# Altium schematic symbol library Passive.SchLib: 86 symbols (part 3 of 4)
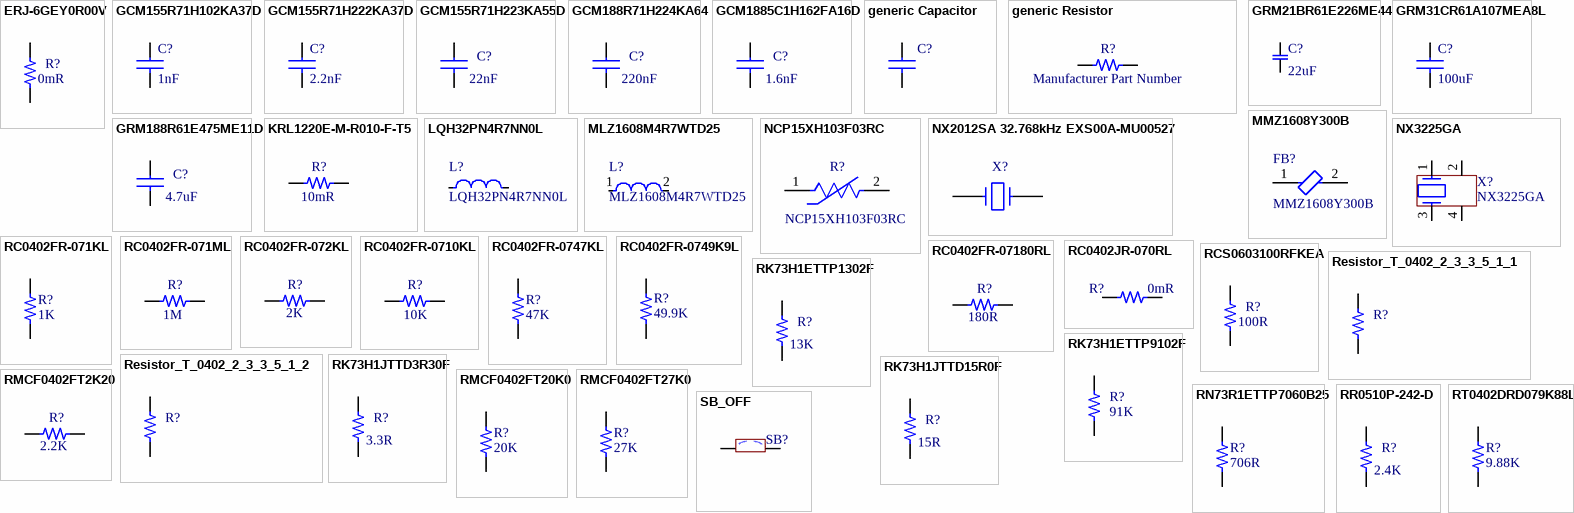
[diagram p4: symbols ERJ-6GEY0R00V to SB_OFF]

## GRM21BR61E226ME44
designator C?  value 22uF  (hidden comment: GRM21BR61E226ME44)
Multilayer Ceramic Capacitor, 22 uF, 25 V, ï¿½ 20%, X5R, 0805 [2012 Metric]; Manufacturer: Murata; Manufacturer Part Number: GRM21BR61E226ME44L; Library: Hexabitz; Voltage Rating: 25V; ComponentLink1URL: https://datasheet.ciiva.com/29199/455898-da-01-en-vs-kondensator-0805-29199201.pdf?src-supplier=Conrad; ComponentLink1Description: https://datasheet.ciiva.com/29199/455898-da-01-en-vs-kondensator-0805-29199201.pdf?src-supplier=Conrad; ComponentLink2URL: https://datasheet.ciiva.com/26310/mlcc-catalogdownload2013-eng-26310125.pdf?src-supplier=Distrelec; ComponentLink2Description: https://datasheet.ciiva.com/26310/mlcc-catalogdownload2013-eng-26310125.pdf?src-supplier=Distrelec; ComponentLink3URL: https://datasheet.ciiva.com/16428/cl05b104kq5nnnc-16428872.pdf?src-supplier=Future+Electronics; ComponentLink3Description: https://datasheet.ciiva.com/16428/cl05b104kq5nnnc-16428872.pdf?src-supplier=Future+Electronics; Supplier: Digikey; Supplier Part Number: 490-10749-6-ND; RoHS: Yes; Category: Ceramic Capacitors; Stock: 324895; Pricing: 1=0.32, 10=0.187, 100=0.1209, 1000=0.0869 (USD); Mounting Technology: Surface Mount; Case/Package: 0805; Case Code (Metric): 2012; Case Code (Imperial): 0805; Material: Ceramic; Weight: 0.000335oz; Min Operating Temperature: -55°C; Max Operating Temperature: 85°C; Tolerance: 20%; Packaging: Cut Tape; Dielectric: X5R; Termination: SMD/SMT; Voltage Rating (DC): 25V; Package Quantity: 3000; Series: GRM; Voltage: 25V; Construction: Flat; Length: 2mm; Width: 1.25mm; Height: 1.25mm; Thickness: 0.057inch; Depth: 1.25mm; RoHS Compliant: Yes; Reach SVHC Compliant: No; Lead Free: Lead Free; ComponentLink4URL: https://datasheet.ciiva.com/22787/1747471-22787265.pdf?src-supplier=Farnell; ComponentLink4Description: https://datasheet.ciiva.com/22787/1747471-22787265.pdf?src-supplier=Farnell; ComponentLink5URL: https://datasheet.ciiva.com/7719/1747471-7719095.pdf?src-supplier=Element14; ComponentLink5Description: https://datasheet.ciiva.com/7719/1747471-7719095.pdf?src-supplier=Element14; ComponentLink6URL: https://datasheet.ciiva.com/28584/1747471-28584199.pdf?src-supplier=Element14; ComponentLink6Description: https://datasheet.ciiva.com/28584/1747471-28584199.pdf?src-supplier=Element14; Supplier 1: Digikey; Supplier Part Number 1: 490-10749-6-ND
footprint C0805
pins: 1, 2

## GRM31CR61A107MEA8L
designator C?  value 100uF  (hidden comment: GRM31CR61A107MEA8L)
100uF ±20% 1206 Multilayer Ceramic Capacitors MLCC - SMD/SMT ROHS; Manufacturer: Murata; Material: 4241ConductorMaterial; Dielectric: 1537DielectricType; Voltage Rating: 10V; Library: Hexabitz; Supplier: Digikey; Supplier Part Number: 490-GRM31CR61A107MEA8LDKR-ND; Manufacturer Part Number: GRM31CR61A107MEA8L; RoHS: Yes; Category: Ceramic Capacitors; Stock: 22643; Pricing: 1=0.49, 10=0.299, 100=0.2007, 1000=0.14965 (USD); Case/Package: 340Case; Min Operating Temperature: -55°C; Max Operating Temperature: 85°C; Tolerance: 20%; Voltage Rating (DC): 10V; Length: 3.2mm; Width: 1.6mm; Height: 1.9mm; Supplier 1: Digikey; Supplier Part Number 1: 490-GRM31CR61A107MEA8LDKR-ND; Supplier 2: Mouser; Supplier Part Number 2: 81-GRM31CR61A107MA8L
footprint C1206
pins: 1, 2

## GRM188R61E475ME11D
designator C?  value 4.7uF  (hidden comment: GRM188R61E475ME11D)
Ceramic Capacitor, Multilayer, Ceramic, 25V, 20% +Tol, 20% -Tol, X5R, 15% TC, 4.7uF, Surface Mount, 0603; Manufacturer: Murata; Library: Hexabitz; Material: 4241ConductorMaterial; ComponentLink1URL: https://datasheet.ciiva.com/155/product-155891.pdf?src-supplier=Digikey; ComponentLink1Description: https://datasheet.ciiva.com/155/product-155891.pdf?src-supplier=Digikey; ComponentLink2URL: https://datasheet.ciiva.com/155/product-155890.pdf?src-supplier=Digikey; ComponentLink2Description: https://datasheet.ciiva.com/155/product-155890.pdf?src-supplier=Digikey; ComponentLink3URL: https://datasheet.ciiva.com/155/product-155892.pdf?src-supplier=Digikey; ComponentLink3Description: https://datasheet.ciiva.com/155/product-155892.pdf?src-supplier=Digikey; Supplier: Digikey; Supplier Part Number: 490-GRM188R61E475ME11DDKR-ND; Manufacturer Part Number: GRM188R61E475ME11D; RoHS: Yes; Category: Ceramic Capacitors; Stock: 8620; Pricing: 1=0.21, 10=0.122, 100=0.0768, 1000=0.05334 (USD); Mounting Technology: Surface Mount; Case/Package: 0603; Case Code (Imperial): 0603; Case Code (Metric): 1608; Weight: 0.000222oz; Min Operating Temperature: -55°C; Max Operating Temperature: 85°C; Voltage Rating: 25V; Tolerance: 20%; Series: GRM; Packaging: Tape and Reel; Voltage Rating (DC): 25V; Termination: SMD/SMT; Package Quantity: 4000; Dielectric: X5R; Length: 1.6mm; Width: 0.8mm; Height: 0.8mm; RoHS Compliant: Yes; ComponentLink4URL: http://www.mouser.com/ds/2/281/c02e-2905.pdf?src-supplier=Mouser; ComponentLink4Description: http://www.mouser.com/ds/2/281/c02e-2905.pdf?src-supplier=Mouser; ComponentLink5URL: http://search.murata.co.jp/Ceramy/image/img/A01X/G101/ENG/GRM188R61E475ME11-01.pdf?src-supplier=Digikey; ComponentLink5Description: http://search.murata.co.jp/Ceramy/image/img/A01X/G101/ENG/GRM188R61E475ME11-01.pdf?src-supplier=Digikey; ComponentLink6URL: https://datasheet.octopart.com/GRM188R61E475ME11D-Murata-datasheet-99353843.pdf?src-supplier=Future+Electronics; ComponentLink6Description: https://datasheet.octopart.com/GRM188R61E475ME11D-Murata-datasheet-99353843.pdf?src-supplier=Future+Electronics; ComponentLink7URL: https://datasheet.octopart.com/GRM188R61E475ME11D-Murata-datasheet-165579666.pdf?src-supplier=TME; ComponentLink7Description: https://datasheet.octopart.com/GRM188R61E475ME11D-Murata-datasheet-165579666.pdf?src-supplier=TME; Supplier 1: Digikey; Supplier Part Number 1: 490-GRM188R61E475ME11DDKR-ND
footprint C0603
pins: 1, 2

## KRL1220E-M-R010-F-T5
designator R?  value 10mR  (hidden comment: KRL1220E-M-R010-F-T5)
Res Metal Foil 0805 0.01 Ohm 1% 0.5W(1/2W) ±50ppm/C Pad SMD Automotive T/R; Manufacturer: Susumu; Library: Hexabitz; Supplier: Digikey; Supplier Part Number: 408-1544-6-ND; Manufacturer Part Number: KRL1220E-M-R010-F-T5; RoHS: No; Category: Chip SMD Resistors; Stock: 336472; Pricing: 1=0.4, 10=0.254, 25=0.2148, 50=0.1904, 100=0.1696, 250=0.14676, 500=0.13246, 1000=0.1203, 2500=0.10698 (USD); ComponentLink1URL: http://www.mouser.com/ds/2/392/n_catalog_partition19_en-1114600.pdf?src-supplier=Mouser; ComponentLink1Description: http://www.mouser.com/ds/2/392/n_catalog_partition19_en-1114600.pdf?src-supplier=Mouser; ComponentLink2URL: http://www.susumu-usa.com/pdf/Foot_Print_21.pdf?src-supplier=Digikey; ComponentLink2Description: http://www.susumu-usa.com/pdf/Foot_Print_21.pdf?src-supplier=Digikey; ComponentLink3URL: https://datasheet.octopart.com/KRL1220E-M-R010-F-T5-Susumu-datasheet-26579243.pdf?src-supplier=Future+Electronics; ComponentLink3Description: https://datasheet.octopart.com/KRL1220E-M-R010-F-T5-Susumu-datasheet-26579243.pdf?src-supplier=Future+Electronics; Supplier 1: Digikey; Supplier Part Number 1: 408-1544-6-ND; Supplier 2: Mouser; Supplier Part Number 2: 754-KRL1220EMR010FT5
footprint R0805
pins: 1, 2

## LQH32PN4R7NN0L
designator L?
Inductor Power Chip Shielded Wirewound 4.7uH 30% 1MHz Ferrite 1A 0.216Ohm DCR 1210 T/R; Manufacturer: Murata; Self Resonant Frequency: 40MHz; DC Resistance (DCR): 180mR; Library: Hexabitz; Supplier: Digikey; Supplier Part Number: 490-5338-6-ND; Manufacturer Part Number: LQH32PN4R7NN0L; RoHS: Yes; Category: Fixed Inductors; Stock: 9126; Pricing: 1=0.25, 10=0.205, 100=0.1688, 1000=0.13878 (USD); Mounting Technology: Surface Mount; Case/Package: 1210; Core Material: Ferrite; Weight: 0.001552oz; Case Code (Metric): 3225; Case Code (Imperial): 1210; Min Operating Temperature: -40°C; Max Operating Temperature: 85°C; Inductance Tolerance: 30%; Package Quantity: 1; Value: 4.7uH; Tolerance: 30%; Packaging: Tape and Reel; Shielding: Shielded; Current Rating: 1A; Saturation Current: 1A; Test Frequency: 1MHz; Max DC Current: 1A; Termination: SMD/SMT; DC Current: 1A; Series: LQH32P_N0; Length: 3.2mm; Width: 0.098inch; Height: 2mm; Height - Seated (Max): 0.067inch; Depth: 2.8mm; Military Standard: Not; Reach SVHC Compliant: No; Lead Free: Lead Free; RoHS Compliant: Yes; ComponentLink1URL: https://datasheet.ciiva.com/30490/0900766b81256105-30490049.pdf?src-supplier=Rs; ComponentLink1Description: https://datasheet.ciiva.com/30490/0900766b81256105-30490049.pdf?src-supplier=Rs; ComponentLink2URL: https://datasheet.ciiva.com/3866/212lqh32pn4r7nn023-3866222.pdf?src-supplier=Arrow+Electronics; ComponentLink2Description: https://datasheet.ciiva.com/3866/212lqh32pn4r7nn023-3866222.pdf?src-supplier=Arrow+Electronics; ComponentLink3URL: https://datasheet.ciiva.com/4963/jelf243a-0061-4963274.pdf?src-supplier=Mouser; ComponentLink3Description: https://datasheet.ciiva.com/4963/jelf243a-0061-4963274.pdf?src-supplier=Mouser; Supplier 1: Digikey; Supplier Part Number 1: 490-5338-6-ND
footprint FP-LQH32PB_N0-MFG
pins: 1, 2

## MLZ1608M4R7WTD25
designator L?
Ind Power Shielded Multi-Layer 4.7uH 20% 2MHz Ferrite 350mA 0603 Paper T/R; Manufacturer: TDK; Library: Hexabitz; Supplier: Digikey; Supplier Part Number: 445-181774-6-ND; Manufacturer Part Number: MLZ1608M4R7WTD25; RoHS: Yes; Category: Fixed Inductors; Stock: 5398; Pricing: 1=0.13, 10=0.109, 25=0.1012, 50=0.0954, 100=0.0899, 250=0.0832, 500=0.07844, 1000=0.07395 (USD); ComponentLink1URL: https://datasheet.ciiva.com/29693/inductor-automotive-decoupling-mlz-en-29693898.pdf?src-supplier=Digikey; ComponentLink1Description: https://datasheet.ciiva.com/29693/inductor-automotive-decoupling-mlz-en-29693898.pdf?src-supplier=Digikey; Supplier 1: Digikey; Supplier Part Number 1: 445-181774-6-ND
footprint FP-MLZ1608-MFG
pins: 1, 2

## MMZ1608Y300B
designator FB?
Ferrite Beads 0603 30ohms 1500mA Signal Line AEC-Q200; Manufacturer: TDK; Manufacturer Part Number: MMZ1608Y300BTD25; Manufacturer Lifecycle Status: PRODUCTION; Library: Hexabitz; Current Rating: 1.5A; DC Resistance (DCR): 50mΩ; Impedance: 30Ω; Number of Circuits: 1; Test Frequency: 100MHz; Tolerance: 25%; Supplier: DigiKey; Supplier Part Number: 445-MMZ1608Y300BTD25DKR-ND; RoHS: Compliant; Category: Ferrite Beads and Chips; Stock: 11896; Pricing: 1=0.1, 10=0.06, 25=0.052, 50=0.0468, 100=0.0419, 250=0.03612, 500=0.03214, 1000=0.02847 (USD); Case/Package: 0603; Case Code (Imperial): 0603; Case Code (Metric): 1608; Core Material: Ferrite; Height: 800µm; Length: 1.6mm; Lifecycle Status: Production; Max Current Rating: 1.5A; Max DC Current: 1.5A; Max Length: 1.75mm; Max Operating Temperature: 125°C; Max Width: 950µm; Min Length: 1.45mm; Min Operating Temperature: -55°C; Min Width: 650µm; Mounting Technology: Surface Mount; Number of Lines: 1; Number of Terminals: 2; Packaging: Tape & Reel (TR); Ratings: AEC-Q200; REACH SVHC: Yes; RMS Current (Irms): 1.5A; ESR: 50mΩ; Termination: SMD/SMT; Weight: 2.012816mg; Width: 800µm; ComponentLink1URL: https://datasheet.octopart.com:443/MMZ1608Y300BTD25-TDK-datasheet-181268448.pdf?src-supplier=IHS; ComponentLink1Description: https://datasheet.octopart.com:443/MMZ1608Y300BTD25-TDK-datasheet-181268448.pdf?src-supplier=IHS; ComponentLink2URL: https://datasheet.octopart.com:443/MMZ1608Y300BTD25-TDK-datasheet-151367874.pdf?src-supplier=TDK; ComponentLink2Description: https://datasheet.octopart.com:443/MMZ1608Y300BTD25-TDK-datasheet-151367874.pdf?src-supplier=TDK; Supplier 1: Digikey; Supplier Part Number 1: 445-MMZ1608Y300BTA00DKR-ND
footprint FP-MMZ1608-0_8-MFG
pins: 1, 2

## NCP15XH103F03RC
designator R?
Thermistor NTC 10K Ohm 1% 2-Pin 0402 Surface Mount Solder Pad 3434K Paper T/R; Manufacturer: Murata; Value: 10kR; Power Rating: 100mW; Current Rating: 310uA; Max Current Rating: 100uA; Voltage Rating: 5V; Library: Hexabitz; Supplier: Digikey; Supplier Part Number: 490-4801-6-ND; RoHS: Yes; Category: Thermistors; Stock: 35316; Pricing: 1=0.11, 5=0.096, 10=0.09, 25=0.0824, 50=0.0778, 100=0.0735, 500=0.06486, 1000=0.06165, 5000=0.05522 (USD); Mounting Technology: Surface Mount; Case/Package: 0402; Pins: 2; Case Code (Metric): 1005; Case Code (Imperial): 0402; Min Operating Temperature: -40°C; Max Operating Temperature: 125°C; Packaging: Tape and Reel; Tolerance: 1%; Package Quantity: 1; Max Power Dissipation: 100mW; Termination: SMD/SMT; Series: NCP; Resistance Tolerance: 1%; Length: 1mm; Height: 0.5mm; Depth: 0.5mm; Radiation Hardening: No; Reach SVHC Compliant: No; Lead Free: Lead Free; RoHS Compliant: Yes; ComponentLink1URL: https://datasheet.ciiva.com/2848/r44e-2848224.pdf?src-supplier=Digikey; ComponentLink1Description: https://datasheet.ciiva.com/2848/r44e-2848224.pdf?src-supplier=Digikey; ComponentLink2URL: https://datasheet.ciiva.com/11822/0900766b807f1e39-11822004.pdf?src-supplier=Rs; ComponentLink2Description: https://datasheet.ciiva.com/11822/0900766b807f1e39-11822004.pdf?src-supplier=Rs; ComponentLink3URL: https://datasheet.ciiva.com/2848/r44e-2848223.pdf?src-supplier=Digikey; ComponentLink3Description: https://datasheet.ciiva.com/2848/r44e-2848223.pdf?src-supplier=Digikey; ComponentLink4URL: https://datasheet.ciiva.com/2848/r44e-2848225.pdf?src-supplier=Digikey; ComponentLink4Description: https://datasheet.ciiva.com/2848/r44e-2848225.pdf?src-supplier=Digikey; ComponentLink5URL: https://datasheet.ciiva.com/3280/l0770e-3280495.pdf?src-supplier=Avnet; ComponentLink5Description: https://datasheet.ciiva.com/3280/l0770e-3280495.pdf?src-supplier=Avnet; ComponentLink6URL: https://datasheet.ciiva.com/16208/ncp15wb473j03rc-16208150.pdf?src-supplier=Future+Electronics; ComponentLink6Description: https://datasheet.ciiva.com/16208/ncp15wb473j03rc-16208150.pdf?src-supplier=Future+Electronics; Supplier 1: Digikey; Supplier Part Number 1: 490-4801-6-ND; Manufacturer Part Number: NCP15XH103F03RC
footprint R0402_3
pins: 1, 2

## NX2012SA 32.768kHz EXS00A-MU00527
designator X?, comment MU00527-32.768K  (value not drawn)
Crystal 32.7680KHZ 6PF SMD; Manufacturer: NDK; Library: Hexabitz; Supplier: Digikey; Supplier Part Number: 644-MU00527-32.768KDKR-ND; Manufacturer Part Number: MU00527-32.768K; RoHS: No; Category: LDO; Stock: 6250; Pricing: 1=0.82, 10=0.71, 50=0.6434, 100=0.6168, 500=0.55914, 1000=0.53602 (USD); Supplier 1: Digikey; Supplier Part Number 1: 644-MU00527-32.768KDKR-ND
footprint CRY_NX2012SA_2P
pins: 1, 2

## NX3225GA
designator X?
Crystal 25.0000MHZ 8PF SMD; Manufacturer: NDK; Manufacturer Part Number: NX3225GA-25.000M-STD-CRG-1; Library: Hexabitz; Frequency Stability: 30ppm; Frequency Tolerance: 20ppm; Frequency: 25MHz; ESR (Equivalent Series Resistance): 50R; Supplier: Mouser; Supplier Part Number: 344-NX3225GA25MSTRG1; RoHS: Yes; Category: Crystals; Stock: 2549; Pricing: 1=0.66, 10=0.567, 50=0.511, 100=0.489, 1000=0.441, 10000=0.352 (USD); Mounting Technology: Surface Mount; Case/Package: SMD/SMT; Min Operating Temperature: -10°C; Max Operating Temperature: 70°C; Packaging: Tape and Reel; Load Capacitance: 8pF; Length: 0.126inch; Width: 0.098inch; Height: 0.035inch; ComponentLink1URL: http://www.ndk.com/images/products/catalog/c_NX3225GA-STD-CRG-1_e.pdf?src-supplier=Digikey; ComponentLink1Description: http://www.ndk.com/images/products/catalog/c_NX3225GA-STD-CRG-1_e.pdf?src-supplier=Digikey; Supplier 1: Mouser; Supplier Part Number 1: 344-NX3225GA25MSTRG1
footprint CRY_NX3225HA_4P
pins: 1, 2, 3, 4

## RC0402FR-071KL
designator R?  value 1K  (hidden comment: RC0402FR-071KL)
SMD Chip Resistor 1 Kohm ½ 1% 62.5 Mw 0402 [1005 Metric] Thick Film General Purpose; Manufacturer: Yageo; Voltage Rating (DC): 50V; Temperature Coefficient: 100ppm/°C; Power Rating: 62.5mW; Max Power Dissipation: 63mW; Library: Hexabitz; Supplier: Digikey; Supplier Part Number: 311-1.00KLRDKR-ND; Manufacturer Part Number: RC0402FR-071KL; RoHS: Yes; Category: Chip SMD Resistors; Stock: 2438980; Pricing: 1=0.1, 10=0.007, 100=0.0061, 1000=0.0051, 2500=0.00408 (USD); Case/Package: 0402; Pins: 2; Case Code (Imperial): 0402; Case Code (Metric): 1005; Min Operating Temperature: -55°C; Max Operating Temperature: 155°C; Tolerance: 1%; Packaging: Tape and Reel; Resistor Type: Thick Film; Voltage Rating: 50V; Termination: SMD/SMT; Features: Moisture Resistant; Series: RC; Number of Terminations: 2; Resistance Tolerance: 1%; Construction: Rectangular; Technology: THICK FILM; Voltage Rating (AC): 50V; Length: 1mm; Width: 0.5mm; Height: 0.32mm; Depth: 0.5mm; Reach SVHC Compliant: No; Lead Free: 5697LeadFree; Military Standard: Not; RoHS Compliant: Yes; ComponentLink1URL: https://datasheet.ciiva.com/11819/0900766b80c66297-11819477.pdf?src-supplier=Rs; ComponentLink1Description: https://datasheet.ciiva.com/11819/0900766b80c66297-11819477.pdf?src-supplier=Rs; ComponentLink2URL: https://datasheet.ciiva.com/7983/1018594-7983502.pdf?src-supplier=Element14; ComponentLink2Description: https://datasheet.ciiva.com/7983/1018594-7983502.pdf?src-supplier=Element14; ComponentLink3URL: https://datasheet.ciiva.com/22747/1018594-22747513.pdf?src-supplier=Element14; ComponentLink3Description: https://datasheet.ciiva.com/22747/1018594-22747513.pdf?src-supplier=Element14; ComponentLink4URL: https://datasheet.ciiva.com/12666/pyu-rc0402-51-rohs-l-6-r-12666741.pdf?src-supplier=Mouser; ComponentLink4Description: https://datasheet.ciiva.com/12666/pyu-rc0402-51-rohs-l-6-r-12666741.pdf?src-supplier=Mouser; ComponentLink5URL: https://datasheet.ciiva.com/7849/1018594-7849869.pdf?src-supplier=Element14; ComponentLink5Description: https://datasheet.ciiva.com/7849/1018594-7849869.pdf?src-supplier=Element14; ComponentLink6URL: https://datasheet.ciiva.com/7849/1018594-7849871.pdf?src-supplier=Element14; ComponentLink6Description: https://datasheet.ciiva.com/7849/1018594-7849871.pdf?src-supplier=Element14; ComponentLink7URL: https://datasheet.ciiva.com/17063/pyu-rc0402-51-rohs-l-6-r-17063193.pdf?src-supplier=Future+Electronics; ComponentLink7Description: https://datasheet.ciiva.com/17063/pyu-rc0402-51-rohs-l-6-r-17063193.pdf?src-supplier=Future+Electronics; Supplier 1: Digikey; Supplier Part Number 1: 311-1.00KLRDKR-ND
footprint R0402_3
pins: 1, 2

## RC0402FR-071ML
designator R?  value 1M  (hidden comment: RC0402FR-071ML)
SMD Chip Resistor 1 Mohm ½ 1% 63 Mw 0402 [1005 Metric] Thick Film General Purpose; Manufacturer: Yageo; Power Rating: 63mW; Voltage Rating: 50V; Temperature Coefficient: 100ppm/°C; Library: Hexabitz; Supplier: Digikey; Supplier Part Number: 311-1.00MLRDKR-ND; Manufacturer Part Number: RC0402FR-071ML; RoHS: Yes; Category: Chip SMD Resistors; Stock: 867168; Pricing: 1=0.1, 10=0.007, 100=0.0066, 1000=0.0051, 2500=0.00408 (USD); Case/Package: 0402; Case Code (Imperial): 0402; Case Code (Metric): 1005; Min Operating Temperature: -55°C; Max Operating Temperature: 155°C; Resistor Type: Thick Film; Packaging: Tape and Reel; Tolerance: 1%; Termination: SMD/SMT; Features: Moisture Resistant; Series: RC; Max Power Dissipation: 63mW; Number of Terminations: 2; Resistance Tolerance: 1%; Construction: Rectangular; Technology: THICK FILM; Length: 1mm; Height: 0.32mm; Depth: 0.5mm; RoHS Compliant: Yes; Military Standard: Not; Reach SVHC Compliant: Unknown; Lead Free: 5697LeadFree; ComponentLink1URL: https://datasheet.ciiva.com/11808/0900766b80c66297-11808125.pdf?src-supplier=Rs; ComponentLink1Description: https://datasheet.ciiva.com/11808/0900766b80c66297-11808125.pdf?src-supplier=Rs; ComponentLink2URL: https://datasheet.ciiva.com/46394/1018594-46394951.pdf?src-supplier=Element14; ComponentLink2Description: https://datasheet.ciiva.com/46394/1018594-46394951.pdf?src-supplier=Element14; ComponentLink3URL: https://datasheet.ciiva.com/7849/1018594-7849883.pdf?src-supplier=Element14; ComponentLink3Description: https://datasheet.ciiva.com/7849/1018594-7849883.pdf?src-supplier=Element14; ComponentLink4URL: https://datasheet.ciiva.com/7849/1018594-7849882.pdf?src-supplier=Element14; ComponentLink4Description: https://datasheet.ciiva.com/7849/1018594-7849882.pdf?src-supplier=Element14; ComponentLink5URL: https://datasheet.ciiva.com/16741/pyu-rc0402-51-rohs-l-6-r-16741081.pdf?src-supplier=Future+Electronics; ComponentLink5Description: https://datasheet.ciiva.com/16741/pyu-rc0402-51-rohs-l-6-r-16741081.pdf?src-supplier=Future+Electronics; Supplier 1: Digikey; Supplier Part Number 1: 311-1.00MLRDKR-ND; Supplier 2: Mouser; Supplier Part Number 2: 603-RC0402FR-071ML
footprint R0402_3
pins: 1, 2

## RC0402FR-072KL
designator R?  value 2K  (hidden comment: RC0402FR-072KL)
SMD Chip Resistor 2 Kohm ½ 1% 62.5 Mw 0402 [1005 Metric] Thick Film General Purpose; Manufacturer: Yageo; Voltage Rating: 50V; Power Rating: 63mW; Temperature Coefficient: 100ppm/°C; Library: Hexabitz; Supplier: Digikey; Supplier Part Number: 311-2KLRDKR-ND; Manufacturer Part Number: RC0402FR-072KL; RoHS: Yes; Category: Chip SMD Resistors; Stock: 331453; Pricing: 1=0.1, 10=0.009, 100=0.0071, 1000=0.00408, 2500=0.00306 (USD); Case/Package: 0402; Case Code (Metric): 1005; Case Code (Imperial): 0402; Min Operating Temperature: -55°C; Max Operating Temperature: 155°C; Package Quantity: 1; Packaging: Tape and Reel; Resistor Type: Thick Film; Termination: SMD/SMT; Series: RC; Voltage Rating (DC): 50V; Tolerance: 1%; Number of Terminations: 2; Max Power Dissipation: 63mW; Working Voltage: 50V; Features: Moisture Resistant; Technology: THICK FILM; Construction: Rectangular; Resistance Tolerance: 1%; Length: 0.039inch; Width: 0.02inch; Height: 0.016inch; Depth: 0.5mm; RoHS Compliant: Yes; Reach SVHC Compliant: Unknown; Military Standard: Not; Lead Free: 5697LeadFree; ComponentLink1URL: https://datasheet.ciiva.com/11808/0900766b80c66297-11808787.pdf?src-supplier=Rs; ComponentLink1Description: https://datasheet.ciiva.com/11808/0900766b80c66297-11808787.pdf?src-supplier=Rs; ComponentLink2URL: https://datasheet.ciiva.com/7849/1018594-7849934.pdf?src-supplier=Element14; ComponentLink2Description: https://datasheet.ciiva.com/7849/1018594-7849934.pdf?src-supplier=Element14; ComponentLink3URL: https://datasheet.ciiva.com/7849/1018594-7849935.pdf?src-supplier=Element14; ComponentLink3Description: https://datasheet.ciiva.com/7849/1018594-7849935.pdf?src-supplier=Element14; ComponentLink4URL: https://datasheet.ciiva.com/7983/1018594-7983517.pdf?src-supplier=Element14; ComponentLink4Description: https://datasheet.ciiva.com/7983/1018594-7983517.pdf?src-supplier=Element14; ComponentLink5URL: https://datasheet.ciiva.com/2453/pyu-r-int-thick-7-2453635.pdf?src-supplier=Digikey; ComponentLink5Description: https://datasheet.ciiva.com/2453/pyu-r-int-thick-7-2453635.pdf?src-supplier=Digikey; ComponentLink6URL: https://datasheet.ciiva.com/2453/pyu-r-int-thick-7-2453636.pdf?src-supplier=Digikey; ComponentLink6Description: https://datasheet.ciiva.com/2453/pyu-r-int-thick-7-2453636.pdf?src-supplier=Digikey; ComponentLink7URL: https://datasheet.ciiva.com/2453/pyu-r-int-thick-7-2453634.pdf?src-supplier=Digikey; ComponentLink7Description: https://datasheet.ciiva.com/2453/pyu-r-int-thick-7-2453634.pdf?src-supplier=Digikey; ComponentLink8URL: https://datasheet.ciiva.com/12667/pyu-rc0402-51-rohs-l-6-r-12667451.pdf?src-supplier=Mouser; ComponentLink8Description: https://datasheet.ciiva.com/12667/pyu-rc0402-51-rohs-l-6-r-12667451.pdf?src-supplier=Mouser; ComponentLink9URL: https://datasheet.ciiva.com/15189/getdatasheetpartid-358921-15189414.pdf?src-supplier=Verical; ComponentLink9Description: https://datasheet.ciiva.com/15189/getdatasheetpartid-358921-15189414.pdf?src-supplier=Verical; Supplier 1: Digikey; Supplier Part Number 1: 311-2KLRDKR-ND; Supplier 2: Mouser; Supplier Part Number 2: 603-RC0402FR-072KL
footprint R0402_3
pins: 1, 2

## RC0402FR-0710KL
designator R?  value 10K  (hidden comment: RC0402FR-0710KL)
SMD Chip Resistor, 10 Kohm, ½ 1%, 62.5 Mw, 0402 [1005 Metric], Thick Film, General Purpose; Manufacturer: Yageo; Voltage Rating (DC): 50V; Temperature Coefficient: 100ppm/°C; Power Rating: 62.5mW; Max Power Dissipation: 63mW; Library: Hexabitz; Supplier: Digikey; Supplier Part Number: 311-10.0KLRCT-ND; Manufacturer Part Number: RC0402FR-0710KL; RoHS: Yes; Category: Chip SMD Resistors; Stock: 1034525; Pricing: 1=0.1, 10=0.02, 100=0.009, 1000=0.00474, 2500=0.00381, 5000=0.00328 (USD); Case/Package: 0402; Pins: 2; Case Code (Imperial): 0402; Case Code (Metric): 1005; Min Operating Temperature: -55°C; Max Operating Temperature: 155°C; Resistor Type: Thick Film; Voltage Rating: 50V; Tolerance: 1%; Packaging: Tape and Reel; Termination: SMD/SMT; Series: RC; Number of Terminations: 2; Features: Moisture Resistant; Resistance Tolerance: 1%; Construction: Rectangular; Length: 1mm; Width: 0.5mm; Depth: 0.5mm; Lead Pitch: 0.2mm; RoHS Compliant: Yes; Reach SVHC Compliant: Unknown; Lead Free: 5697LeadFree; Military Standard: Not; ComponentLink1URL: https://datasheet.ciiva.com/7660/38568-7660787.pdf?src-supplier=Element14; ComponentLink1Description: https://datasheet.ciiva.com/7660/38568-7660787.pdf?src-supplier=Element14; ComponentLink2URL: https://datasheet.ciiva.com/7849/1686128-7849814.pdf?src-supplier=Element14; ComponentLink2Description: https://datasheet.ciiva.com/7849/1686128-7849814.pdf?src-supplier=Element14; ComponentLink3URL: https://datasheet.ciiva.com/7983/1018594-7983486.pdf?src-supplier=Element14; ComponentLink3Description: https://datasheet.ciiva.com/7983/1018594-7983486.pdf?src-supplier=Element14; ComponentLink4URL: https://datasheet.ciiva.com/22747/1018594-22747512.pdf?src-supplier=Element14; ComponentLink4Description: https://datasheet.ciiva.com/22747/1018594-22747512.pdf?src-supplier=Element14; ComponentLink5URL: https://datasheet.ciiva.com/12667/pyu-rc0402-51-rohs-l-6-r-12667067.pdf?src-supplier=Mouser; ComponentLink5Description: https://datasheet.ciiva.com/12667/pyu-rc0402-51-rohs-l-6-r-12667067.pdf?src-supplier=Mouser; ComponentLink6URL: https://datasheet.ciiva.com/7849/1784430-7849813.pdf?src-supplier=Element14; ComponentLink6Description: https://datasheet.ciiva.com/7849/1784430-7849813.pdf?src-supplier=Element14; ComponentLink7URL: https://datasheet.ciiva.com/7849/1784430-7849815.pdf?src-supplier=Element14; ComponentLink7Description: https://datasheet.ciiva.com/7849/1784430-7849815.pdf?src-supplier=Element14; Supplier 1: Digikey; Supplier Part Number 1: 311-10.0KLRDKR-ND; Supplier 2: Mouser; Supplier Part Number 2: 603-RC0402FR-0710KL
footprint R0402_3
pins: 1, 2

## RC0402FR-0747KL
designator R?  value 47K  (hidden comment: RC0402FR-0747KL)
SMD Chip Resistor, 47 kOhm, ï¿½ 1%, 62.5 mW, 0402 [1005 Metric], Thick Film, General Purpose; Manufacturer: Yageo; Power Rating: 62.5mW; Temperature Coefficient: 100ppm/°C; Voltage Rating: 50V; Max Power Dissipation: 63mW; Library: Hexabitz; Supplier: Digikey; Supplier Part Number: 311-47.0KLRDKR-ND; Manufacturer Part Number: RC0402FR-0747KL; RoHS: Yes; Category: Chip SMD Resistors; Stock: 478980; Pricing: 1=0.1, 10=0.008, 100=0.0071, 1000=0.0051, 2500=0.00408 (USD); Case/Package: 0402; Case Code (Imperial): 0402; Case Code (Metric): 1005; Min Operating Temperature: -55°C; Max Operating Temperature: 155°C; Tolerance: 1%; Series: RC; Packaging: Tape and Reel; Package Quantity: 1; Termination: SMD/SMT; Resistor Type: Thick Film; Number of Terminations: 2; Features: Moisture Resistant; Resistance Tolerance: 1%; Construction: Rectangular; Voltage Rating (AC): 50V; Length: 1mm; Width: 0.02inch; Height: 0.016inch; Depth: 0.5mm; RoHS Compliant: Yes; Military Standard: Not; Reach SVHC Compliant: Unknown; Lead Free: 5697LeadFree; ComponentLink1URL: https://datasheet.ciiva.com/46412/1018594-46412839.pdf?src-supplier=Element14; ComponentLink1Description: https://datasheet.ciiva.com/46412/1018594-46412839.pdf?src-supplier=Element14; ComponentLink2URL: https://datasheet.ciiva.com/2453/pyu-r-int-thick-7-2453389.pdf?src-supplier=Digikey; ComponentLink2Description: https://datasheet.ciiva.com/2453/pyu-r-int-thick-7-2453389.pdf?src-supplier=Digikey; ComponentLink3URL: https://datasheet.ciiva.com/2453/pyu-r-int-thick-7-2453390.pdf?src-supplier=Digikey; ComponentLink3Description: https://datasheet.ciiva.com/2453/pyu-r-int-thick-7-2453390.pdf?src-supplier=Digikey; ComponentLink4URL: https://datasheet.ciiva.com/2453/pyu-r-int-thick-7-2453388.pdf?src-supplier=Digikey; ComponentLink4Description: https://datasheet.ciiva.com/2453/pyu-r-int-thick-7-2453388.pdf?src-supplier=Digikey; ComponentLink5URL: https://datasheet.ciiva.com/16793/pyu-rc0402-51-rohs-l-6-r-16793430.pdf?src-supplier=Future+Electronics; ComponentLink5Description: https://datasheet.ciiva.com/16793/pyu-rc0402-51-rohs-l-6-r-16793430.pdf?src-supplier=Future+Electronics; ComponentLink6URL: https://datasheet.ciiva.com/15189/getdatasheetpartid-323748-15189466.pdf?src-supplier=Verical; ComponentLink6Description: https://datasheet.ciiva.com/15189/getdatasheetpartid-323748-15189466.pdf?src-supplier=Verical; Supplier 1: Digikey; Supplier Part Number 1: 311-47.0KLRDKR-ND; Supplier 2: Mouser; Supplier Part Number 2: 603-RC0402FR-0747KL
footprint R0402_3
pins: 1, 2

## RC0402FR-0749K9L
designator R?  value 49.9K  (hidden comment: RC0402FR-0749K9L)
Res General Purpose Thick Film 0402 49.9K Ohm 1% 1/16W ±100ppm/°C Molded SMD Paper T/R; Manufacturer: Yageo; Power Rating: 62.5mW; Voltage Rating: 50V; Max Power Dissipation: 63mW; Library: Hexabitz; Supplier: Digikey; Supplier Part Number: 311-49.9KLRDKR-ND; Manufacturer Part Number: RC0402FR-0749K9L; RoHS: Yes; Category: Chip SMD Resistors; Stock: 3436272; Pricing: 1=0.1, 10=0.009, 100=0.0061, 1000=0.00408, 2500=0.00306 (USD); Case/Package: 0402; Case Code (Imperial): 0402; Case Code (Metric): 1005; Min Operating Temperature: -55°C; Max Operating Temperature: 155°C; Tolerance: 1%; Packaging: Tape and Reel; Termination: SMD/SMT; Temperature Coefficient: 100ppm/°C; Voltage Rating (DC): 50V; Features: Moisture Resistant; Series: RC; Number of Terminations: 2; Construction: Rectangular; Length: 1mm; Depth: 0.5mm; RoHS Compliant: Yes; Military Standard: Not; Lead Free: Lead Free; ComponentLink1URL: https://datasheet.ciiva.com/17071/pyu-rc0402-51-rohs-l-6-r-17071066.pdf?src-supplier=Future+Electronics; ComponentLink1Description: https://datasheet.ciiva.com/17071/pyu-rc0402-51-rohs-l-6-r-17071066.pdf?src-supplier=Future+Electronics; Supplier 1: Digikey; Supplier Part Number 1: 311-49.9KLRDKR-ND
footprint R0402_3
pins: 1, 2

## RC0402FR-07180RL
designator R?  value 180R  (hidden comment: *)
SMD Chip Resistor, 20 Ohm, ± 1%, 63 mW, 0402 [1005 Metric], Thick Film, General Purpose; Manufacturer: Yageo; Manufacturer Part Number: RC0402FR-07180RL; Power Rating: 62.5mW; Voltage Rating: 50V; Max Power Dissipation: 63mW; Temperature Coefficient: 100ppm/°C; Library: Hexabitz; Supplier: Digikey; Supplier Part Number: 311-180LRDKR-ND; RoHS: Yes; Category: Chip SMD Resistors; Stock: 1035156; Pricing: 1=0.1, 10=0.007, 100=0.0051, 1000=0.00408, 2500=0.00357 (USD); Case/Package: 0402; Case Code (Metric): 1005; Case Code (Imperial): 0402; Min Operating Temperature: -55°C; Max Operating Temperature: 155°C; Package Quantity: 1; Tolerance: 1%; Packaging: Tape and Reel; Resistor Type: Thick Film; Number of Terminations: 2; Termination: SMD/SMT; Features: Moisture Resistant; Series: RC; Resistance Tolerance: 1%; Construction: Rectangular; Voltage Rating (AC): 50V; Length: 0.039inch; Width: 0.02inch; Height: 0.016inch; Depth: 0.5mm; Military Standard: Not; Lead Free: Lead Free; RoHS Compliant: Yes; Reach SVHC Compliant: Unknown; ComponentLink1URL: https://datasheet.ciiva.com/2453/pyu-r-int-thick-7-2453425.pdf?src-supplier=Digikey; ComponentLink1Description: https://datasheet.ciiva.com/2453/pyu-r-int-thick-7-2453425.pdf?src-supplier=Digikey; ComponentLink2URL: https://datasheet.ciiva.com/2453/pyu-r-int-thick-7-2453426.pdf?src-supplier=Digikey; ComponentLink2Description: https://datasheet.ciiva.com/2453/pyu-r-int-thick-7-2453426.pdf?src-supplier=Digikey; ComponentLink3URL: https://datasheet.ciiva.com/2453/pyu-r-int-thick-7-2453424.pdf?src-supplier=Digikey; ComponentLink3Description: https://datasheet.ciiva.com/2453/pyu-r-int-thick-7-2453424.pdf?src-supplier=Digikey; ComponentLink4URL: https://datasheet.ciiva.com/12667/pyu-rc0402-51-rohs-l-6-r-12667414.pdf?src-supplier=Mouser; ComponentLink4Description: https://datasheet.ciiva.com/12667/pyu-rc0402-51-rohs-l-6-r-12667414.pdf?src-supplier=Mouser; ComponentLink5URL: https://datasheet.ciiva.com/7849/1018594-7849854.pdf?src-supplier=Element14; ComponentLink5Description: https://datasheet.ciiva.com/7849/1018594-7849854.pdf?src-supplier=Element14; ComponentLink6URL: https://datasheet.ciiva.com/7849/1018594-7849853.pdf?src-supplier=Element14; ComponentLink6Description: https://datasheet.ciiva.com/7849/1018594-7849853.pdf?src-supplier=Element14; Supplier 1: Digikey; Supplier Part Number 1: 311-180LRDKR-ND; Pins: 2; Contact Plating: Tin,Matte; Working Voltage: 50V; Voltage Rating (DC): 50V; Technology: THICK FILM; ComponentLink7URL: https://datasheet.ciiva.com/5998/1018594-5998583.pdf?src-supplier=Farnell; ComponentLink7Description: https://datasheet.ciiva.com/5998/1018594-5998583.pdf?src-supplier=Farnell; ComponentLink8URL: https://datasheet.ciiva.com/7849/1018594-7849902.pdf?src-supplier=Element14; ComponentLink8Description: https://datasheet.ciiva.com/7849/1018594-7849902.pdf?src-supplier=Element14; ComponentLink9URL: https://datasheet.ciiva.com/5998/1018594-5998584.pdf?src-supplier=Farnell; ComponentLink9Description: https://datasheet.ciiva.com/5998/1018594-5998584.pdf?src-supplier=Farnell; ComponentLink10URL: https://datasheet.ciiva.com/7849/1018594-7849903.pdf?src-supplier=Element14; ComponentLink10Description: https://datasheet.ciiva.com/7849/1018594-7849903.pdf?src-supplier=Element14; ComponentLink11URL: https://datasheet.ciiva.com/7983/1018594-7983513.pdf?src-supplier=Element14; ComponentLink11Description: https://datasheet.ciiva.com/7983/1018594-7983513.pdf?src-supplier=Element14; ComponentLink12URL: https://datasheet.ciiva.com/8890/pyu-rc0402-51-rohs-l-6-8890328.pdf?src-supplier=Avnet; ComponentLink12Description: https://datasheet.ciiva.com/8890/pyu-rc0402-51-rohs-l-6-8890328.pdf?src-supplier=Avnet; ComponentLink13URL: https://datasheet.ciiva.com/16741/pyu-rc0402-51-rohs-l-6-r-16741885.pdf?src-supplier=Future+Electronics; ComponentLink13Description: https://datasheet.ciiva.com/16741/pyu-rc0402-51-rohs-l-6-r-16741885.pdf?src-supplier=Future+Electronics
footprint R0402_3
pins: 1, 2

## RC0402JR-070RL
designator R?  value 0mR  (hidden comment: RC0402JR-070RL)
GENERAL PURPOSE CHIP RESISTOR Metal Glaze/thick Film, 0.0625W, 0ohm, Surface Mount, 0402; Manufacturer: Yageo; Power Rating: 62.5mW; Tolerance: 5%; Voltage Rating: 50V; Max Power Dissipation: 63mW; Temperature Coefficient: 200ppm/°C; Library: Hexabitz; Supplier: Digikey; Supplier Part Number: 311-0.0JRDKR-ND; Manufacturer Part Number: RC0402JR-070RL; RoHS: Yes; Category: Chip SMD Resistors; Stock: 1087568; Pricing: 1=0.1, 10=0.01, 25=0.0064, 50=0.0054, 100=0.0047, 250=0.00392, 500=0.00346, 1000=0.00304, 5000=0.0023 (USD); Case/Package: 0402; Contact Plating: Tin,Matte; Case Code (Metric): 1005; Case Code (Imperial): 0402; Min Operating Temperature: -55°C; Max Operating Temperature: 155°C; Packaging: Tape and Reel; Resistor Type: Thick Film; Number of Terminations: 2; Termination: SMD/SMT; Features: Moisture Resistant; Series: RC; Package Quantity: 1; Technology: THICK FILM; Resistance Tolerance: 5%; Construction: Rectangular; Length: 1mm; Width: 0.02inch; Height: 0.016inch; Depth: 0.5mm; Lead Free: 5697LeadFree; Reach SVHC Compliant: Unknown; RoHS Compliant: Yes; Military Standard: Not; Supplier 1: Digikey; Supplier Part Number 1: 311-0.0JRDKR-ND
footprint R0402_3
pins: 1, 2

## RCS0603100RFKEA
designator R?  value 100R  (hidden comment: RCS0603100RFKEA)
Res Thick Film 0603 100 Ohm 1% 0.25W(1/4W) ±100ppm/C Pad SMD Automotive Medical T/R; Manufacturer: Vishay Dale; Library: Hexabitz; Voltage Rating: 75V; Supplier: Digikey; Supplier Part Number: 541-2786-6-ND; Manufacturer Part Number: RCS0603100RFKEA; RoHS: Yes; Category: Chip SMD Resistors; Stock: 75025; Pricing: 1=0.13, 10=0.06, 100=0.0327, 1000=0.02046, 2500=0.01832 (USD); Voltage Rating (DC): 75V; ComponentLink1URL: http://www.farnell.com/datasheets/2618474.pdf?src-supplier=Farnell; ComponentLink1Description: http://www.farnell.com/datasheets/2618474.pdf?src-supplier=Farnell; ComponentLink2URL: http://www.farnell.com/datasheets/2618474.pdf?src-supplier=Newark; ComponentLink2Description: http://www.farnell.com/datasheets/2618474.pdf?src-supplier=Newark; ComponentLink3URL: http://www.farnell.com/datasheets/2618474.pdf?src-supplier=Element14; ComponentLink3Description: http://www.farnell.com/datasheets/2618474.pdf?src-supplier=Element14; ComponentLink4URL: https://datasheet.octopart.com/RCS0603100RFKEA-Vishay-datasheet-86813749.pdf?src-supplier=Future+Electronics; ComponentLink4Description: https://datasheet.octopart.com/RCS0603100RFKEA-Vishay-datasheet-86813749.pdf?src-supplier=Future+Electronics; ComponentLink5URL: http://www.vishay.com/docs/20065/rcse3.pdf?src-supplier=Digikey; ComponentLink5Description: http://www.vishay.com/docs/20065/rcse3.pdf?src-supplier=Digikey; Supplier 1: Digikey; Supplier Part Number 1: 541-2786-6-ND
footprint R0603
pins: 1, 2

## Resistor_T_0402_2_3_3_5_1_1
designator R?  (value not drawn)
Library: Hexabitz
footprint R0402_3
pins: 1, 2

## Resistor_T_0402_2_3_3_5_1_2
designator R?  (value not drawn)
Library: Hexabitz
footprint R0402_3
pins: 1, 2

## RK73H1ETTP1302F
designator R?  value 13K  (hidden comment: RK73H1ETTP1302F)
Res Thick Film 0402 13K Ohm 1% 0.1W(1/10W) ±100ppm/C Pad SMD T/R Automotive AEC-Q200; Manufacturer: KOA Speer; Library: Hexabitz; Power Rating: 63mW; Voltage Rating: 50V; Temperature Coefficient: 100ppm/°C; Max Power Dissipation: 100mW; Supplier: Digikey; Supplier Part Number: 2019-RK73H1ETTP1302FDKR-ND; Manufacturer Part Number: RK73H1ETTP1302F; RoHS: Yes; Category: Chip SMD Resistors; Stock: 82370; Pricing: 1=0.1, 10=0.027, 100=0.0129, 1000=0.00713, 2500=0.00585, 5000=0.00544 (USD); Mounting Technology: Surface Mount; Case/Package: 0402; Case Code (Imperial): 0402; Case Code (Metric): 1005; Min Operating Temperature: -55°C; Max Operating Temperature: 155°C; Tolerance: 1%; Packaging: Tape and Reel; Package Quantity: 10000; Termination: SMD/SMT; Voltage Rating (DC): 50V; Series: RK73H; Construction: Rectangular; Technology: THICK FILM; Features: Moisture Resistant,Automotive AEC-Q200; Number of Terminations: 2; Length: 1mm; Width: 0.5mm; Height: 0.35mm; Depth: 0.5mm; Ratings: AEC-Q200; Military Standard: Not; Lead Free: Lead Free; RoHS Compliant: Yes; ComponentLink1URL: https://datasheet.ciiva.com/15203/getdatasheetpartid-212782-15203019.pdf?src-supplier=Verical; ComponentLink1Description: https://datasheet.ciiva.com/15203/getdatasheetpartid-212782-15203019.pdf?src-supplier=Verical; Supplier 1: Digikey; Supplier Part Number 1: 2019-RK73H1ETTP1302FDKR-ND; Supplier 2: Mouser; Supplier Part Number 2: 660-RK73H1ETTP1302F
footprint R0402_3
pins: 1, 2

## RK73H1ETTP9102F
designator R?  value 91K  (hidden comment: RK73H1ETTP9102F)
Res Thick Film 0402 91K Ohm 1% 0.1W(1/10W) ±100ppm/C Pad SMD Automotive T/R; Manufacturer: KOA Speer; Library: Hexabitz; Power Rating: 63mW; Voltage Rating: 50V; Temperature Coefficient: 100ppm/°C; Supplier: Digikey; Supplier Part Number: 2019-RK73H1ETTP9102FDKR-ND; Manufacturer Part Number: RK73H1ETTP9102F; RoHS: Yes; Category: Chip SMD Resistors; Stock: 34381; Pricing: 1=0.1, 10=0.027, 100=0.0129, 1000=0.00713, 2500=0.00585, 5000=0.00544 (USD); Case/Package: 0402; Case Code (Imperial): 0402; Case Code (Metric): 1005; Min Operating Temperature: -55°C; Max Operating Temperature: 155°C; Tolerance: 1%; Packaging: Tape and Reel; Package Quantity: 10000; Termination: SMD/SMT; Series: RK73H; Construction: Rectangular; Voltage Rating (DC): 50V; Length: 1mm; Width: 0.5mm; Height: 0.35mm; Depth: 0.5mm; Military Standard: Not; RoHS Compliant: Yes; Lead Free: 5697LeadFree; ComponentLink1URL: https://datasheet.ciiva.com/5554/rk73h-5554013.pdf?src-supplier=Mouser; ComponentLink1Description: https://datasheet.ciiva.com/5554/rk73h-5554013.pdf?src-supplier=Mouser; Supplier 1: Digikey; Supplier Part Number 1: 2019-RK73H1ETTP9102FDKR-ND
footprint R0402_3
pins: 1, 2

## RK73H1JTTD3R30F
designator R?  value 3.3R  (hidden comment: RK73H1JTTD3R30F)
Thick Film Chip Resistor 0603 SMD 3.3 Ohm 1% 0.125W(1/8W) 200ppm/C; Manufacturer: KOA Speer; Library: Hexabitz; Voltage Rating: 50V; Power Rating: 100mW; Temperature Coefficient: 200ppm/°C; Max Power Dissipation: 125mW; ComponentLink1URL: https://datasheet.ciiva.com/43470/1776116-43470486.pdf?src-supplier=Farnell; ComponentLink1Description: https://datasheet.ciiva.com/43470/1776116-43470486.pdf?src-supplier=Farnell; ComponentLink2URL: https://datasheet.ciiva.com/9116/aoa0000ce26-9116653.pdf?src-supplier=Avnet; ComponentLink2Description: https://datasheet.ciiva.com/9116/aoa0000ce26-9116653.pdf?src-supplier=Avnet; ComponentLink3URL: https://datasheet.ciiva.com/9197/aoa0000ce26-9197535.pdf?src-supplier=Avnet; ComponentLink3Description: https://datasheet.ciiva.com/9197/aoa0000ce26-9197535.pdf?src-supplier=Avnet; ComponentLink4URL: https://datasheet.ciiva.com/12811/pyu-rt-1-to-0-05-rohs-l-4-12811468.pdf?src-supplier=Mouser; ComponentLink4Description: https://datasheet.ciiva.com/12811/pyu-rt-1-to-0-05-rohs-l-4-12811468.pdf?src-supplier=Mouser; Supplier: Digikey; Supplier Part Number: 2019-RK73H1JTTD3R30FDKR-ND; Manufacturer Part Number: RK73H1JTTD3R30F; RoHS: Yes; Category: Chip SMD Resistors; Stock: 33688; Pricing: 1=0.1, 10=0.028, 100=0.0136, 1000=0.00756, 2500=0.00622 (USD); Case/Package: 0603; Pins: 2; Case Code (Imperial): 0603; Case Code (Metric): 1608; Min Operating Temperature: -55°C; Max Operating Temperature: 155°C; Tolerance: 1%; Packaging: Tape and Reel; Resistor Type: Thick Film; Termination: SMD/SMT; Series: RK73H; Construction: Rectangular; Resistance Tolerance: 1%; Features: Moisture Resistant,Automotive AEC-Q200; Number of Terminations: 2; Length: 1.6mm; Depth: 0.8mm; Ratings: AEC-Q200; Military Standard: Not; Lead Free: Lead Free; RoHS Compliant: Yes; ComponentLink5URL: https://datasheet.ciiva.com/48426/rk73h-series-eng-jap-tds-48426603.pdf?src-supplier=Distrelec; ComponentLink5Description: https://datasheet.ciiva.com/48426/rk73h-series-eng-jap-tds-48426603.pdf?src-supplier=Distrelec; ComponentLink6URL: https://datasheet.ciiva.com/7816/549017-7816815.pdf?src-supplier=Element14; ComponentLink6Description: https://datasheet.ciiva.com/7816/549017-7816815.pdf?src-supplier=Element14; ComponentLink7URL: https://datasheet.ciiva.com/5556/rk73h-5556827.pdf?src-supplier=Mouser; ComponentLink7Description: https://datasheet.ciiva.com/5556/rk73h-5556827.pdf?src-supplier=Mouser; Supplier 1: Digikey; Supplier Part Number 1: 2019-RK73H1JTTD3R30FDKR-ND
footprint R0603
pins: 1, 2

## RK73H1JTTD15R0F
designator R?  value 15R  (hidden comment: RK73H1JTTD15R0F)
Resistor SMD 15 Ohm  ±  1 %, RK73H1JTTD15R0F, KOA; Manufacturer: KOA Speer; Manufacturer Series: RK73H; Library: Hexabitz; Tolerance: 1%; Power Rating: 100mW; Voltage Rating: 50V; Temperature Coefficient: 100ppm/°C; Additional Feature: PRECISION; Max Power Dissipation: 125mW; Supplier: Digikey; Supplier Part Number: 2019-RK73H1JTTD15R0FDKR-ND; Manufacturer Part Number: RK73H1JTTD15R0F; RoHS: Yes; Category: Chip SMD Resistors; Stock: 36309; Pricing: 1=0.1, 10=0.026, 100=0.0124, 1000=0.0068, 2500=0.00557 (USD); Case/Package: 0603; Pins: 2; Case Code (Imperial): 0603; Case Code (Metric): 1608; Package Shape: Rectangular; Terminal Finish: Tin; Min Operating Temperature: -55°C; Max Operating Temperature: 155°C; Packaging: Tape and Reel; Package Quantity: 5000; Resistor Type: Thick Film; Termination: SMD/SMT; Working Voltage: 50V; Voltage Rating (DC): 50V; Series: RK73H; Technology: METAL GLAZE/THICK FILM; Resistance Tolerance: 1%; Features: Moisture Resistant,Automotive AEC-Q200; Number of Terminations: 2; Length: 1.6mm; Width: 0.8mm; Height: 0.45mm; Ratings: AEC-Q200; Lead Free: Lead Free; RoHS Compliant: Yes; ComponentLink1URL: https://datasheet.ciiva.com/19466/1885955-ds01-19466519.pdf?src-supplier=Jameco; ComponentLink1Description: https://datasheet.ciiva.com/19466/1885955-ds01-19466519.pdf?src-supplier=Jameco; ComponentLink2URL: https://datasheet.ciiva.com/7773/549017-7773372.pdf?src-supplier=Element14; ComponentLink2Description: https://datasheet.ciiva.com/7773/549017-7773372.pdf?src-supplier=Element14; ComponentLink3URL: https://datasheet.ciiva.com/48426/rk73h-series-eng-jap-tds-48426543.pdf?src-supplier=Distrelec; ComponentLink3Description: https://datasheet.ciiva.com/48426/rk73h-series-eng-jap-tds-48426543.pdf?src-supplier=Distrelec; Supplier 1: Digikey; Supplier Part Number 1: 2019-RK73H1JTTD15R0FDKR-ND
footprint R0603
pins: 1, 2

## RMCF0402FT2K20
designator R?  value 2.2K  (hidden comment: *)
Res Thick Film 0402 2.2K Ohm 1% 0.063W(1/16W) ±100ppm/C Pad SMD Automotive T/R; Manufacturer: Stackpole Electronics; Manufacturer Part Number: RMCF0402FT2K20; Voltage Rating: 50V; Library: Hexabitz; Supplier: Digikey; Supplier Part Number: RMCF0402FT2K20DKR-ND; RoHS: Yes; Category: Chip SMD Resistors; Stock: 842139; Pricing: 1=0.1, 10=0.019, 100=0.0086, 1000=0.00448, 2500=0.00359, 5000=0.00309 (USD); RoHS Compliant: 5897YesNo; ComponentLink1URL: https://datasheet.ciiva.com/15193/getdatasheetpartid-559885-15193421.pdf?src-supplier=Verical; ComponentLink1Description: https://datasheet.ciiva.com/15193/getdatasheetpartid-559885-15193421.pdf?src-supplier=Verical; Supplier 1: Digikey; Supplier Part Number 1: RMCF0402FT2K20DKR-ND
footprint R0402_3
pins: 1, 2

## RMCF0402FT20K0
designator R?  value 20K  (hidden comment: RMCF0402FT20K0)
Res Thick Film 0402 20K Ohm 1% 0.063W(1/16W) ±100ppm/C Pad SMD Automotive T/R; Manufacturer: Stackpole Electronics; Voltage Rating: 50V; Library: Hexabitz; Supplier: Digikey; Supplier Part Number: RMCF0402FT20K0DKR-ND; Manufacturer Part Number: RMCF0402FT20K0; RoHS: Yes; Category: Chip SMD Resistors; Stock: 1424339; Pricing: 1=0.1, 10=0.019, 100=0.0086, 1000=0.00448, 2500=0.00359, 5000=0.00309 (USD); Lead Free: 5697LeadFree; ComponentLink1URL: http://components.arrow.com/part/dataview/40959032S7284943N1174?src-supplier=Arrow+Electronics; ComponentLink1Description: http://components.arrow.com/part/dataview/40959032S7284943N1174?src-supplier=Arrow+Electronics; ComponentLink2URL: https://www.seielect.com/catalog/SEI-RMCF_RMCP.pdf?src-supplier=Avnet; ComponentLink2Description: https://www.seielect.com/catalog/SEI-RMCF_RMCP.pdf?src-supplier=Avnet; ComponentLink3URL: https://www.seielect.com/catalog/sei-rmcf_rmcp.pdf?src-supplier=Digikey; ComponentLink3Description: https://www.seielect.com/catalog/sei-rmcf_rmcp.pdf?src-supplier=Digikey; ComponentLink4URL: https://datasheet.octopart.com/RMCF0402FT20K0-Stackpole-Electronics-datasheet-154799224.pdf?src-supplier=Master+Electronics; ComponentLink4Description: https://datasheet.octopart.com/RMCF0402FT20K0-Stackpole-Electronics-datasheet-154799224.pdf?src-supplier=Master+Electronics; Supplier 1: Digikey; Supplier Part Number 1: RMCF0402FT20K0DKR-ND
footprint R0402_3
pins: 1, 2

## RMCF0402FT27K0
designator R?  value 27K  (hidden comment: RMCF0402FT27K0)
Res Thick Film 0402 27K Ohm 1% 0.063W(1/16W) ±100ppm/C Pad SMD T/R Automotive AEC-Q200; Manufacturer: Stackpole Electronics; Voltage Rating: 50V; Library: Hexabitz; Supplier: Digikey; Supplier Part Number: RMCF0402FT27K0DKR-ND; Manufacturer Part Number: RMCF0402FT27K0; RoHS: Yes; Category: Chip SMD Resistors; Stock: 643192; Pricing: 1=0.1, 10=0.019, 100=0.0086, 1000=0.00448, 2500=0.00359, 5000=0.00309 (USD); ComponentLink1URL: https://www.seielect.com/catalog/SEI-RMCF_RMCP.pdf?src-supplier=Avnet; ComponentLink1Description: https://www.seielect.com/catalog/SEI-RMCF_RMCP.pdf?src-supplier=Avnet; ComponentLink2URL: https://www.seielect.com/catalog/SEI-Packaging.pdf?src-supplier=Digikey; ComponentLink2Description: https://www.seielect.com/catalog/SEI-Packaging.pdf?src-supplier=Digikey; ComponentLink3URL: http://www.seielect.com/Catalog/SEI-RMCF_RMCP.pdf?src-supplier=Digikey; ComponentLink3Description: http://www.seielect.com/Catalog/SEI-RMCF_RMCP.pdf?src-supplier=Digikey; ComponentLink4URL: https://www.seielect.com/Catalog/SEI-RMCF_RMCP.pdf?src-supplier=Digikey; ComponentLink4Description: https://www.seielect.com/Catalog/SEI-RMCF_RMCP.pdf?src-supplier=Digikey; ComponentLink5URL: https://datasheet.octopart.com/RMCF0402FT27K0-Stackpole-Electronics-datasheet-141193804.pdf?src-supplier=Future+Electronics; ComponentLink5Description: https://datasheet.octopart.com/RMCF0402FT27K0-Stackpole-Electronics-datasheet-141193804.pdf?src-supplier=Future+Electronics; ComponentLink6URL: https://datasheet.octopart.com/RMCF0402FT27K0-Stackpole-Electronics-datasheet-155966809.pdf?src-supplier=Master+Electronics; ComponentLink6Description: https://datasheet.octopart.com/RMCF0402FT27K0-Stackpole-Electronics-datasheet-155966809.pdf?src-supplier=Master+Electronics; Supplier 1: Digikey; Supplier Part Number 1: RMCF0402FT27K0DKR-ND
footprint R0402_3
pins: 1, 2

## RN73R1ETTP7060B25
designator R?  value 706R  (hidden comment: RN73R1ETTP7060B25)
Res 706 Ohm 0.1% 1/16W 0402; Manufacturer: KOA Speer; Library: Hexabitz; Supplier: Digikey; Supplier Part Number: 2019-RN73R1ETTP7060B25DKR-ND; Manufacturer Part Number: RN73R1ETTP7060B25; RoHS: Yes; Category: Chip SMD Resistors; Stock: 8920; Pricing: 1=0.1, 10=0.066, 50=0.0576, 100=0.0544, 500=0.04774, 1000=0.04524, 5000=0.04032 (USD); Supplier 1: Digikey; Supplier Part Number 1: 2019-RN73R1ETTP7060B25DKR-ND
footprint R0402_3
pins: 1, 2